# EAGLE library part DMN601VK-7 (library RoboRacing Manual Board)
Mosfet Array 2 N-Channel (Dual) 60V 305mA 250mW Surface Mount SOT-563 https://www.diodes.com/assets/Datasheets/ds30655.pdf
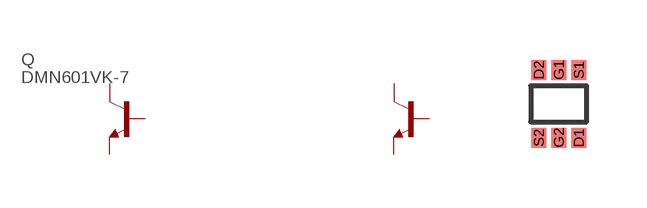
[diagram p0: symbol with the pads of SOT563; footprint SOT563]

Designator prefix Q

## DMN601VK-7 (DKPN: DMN601VKDITR-ND)  [SOT563]
D1  E  pas
D2  E1  pas
G1  B  pas
G2  B1  pas
S1  C  pas
S2  C1  pas

## Footprint SOT563 (pad centres in mm)
smd 0.375 x 0.5: D1 1,0; D2 0,1.7; G1 0.5,1.7; G2 0.5,0; S1 1,1.7; S2 0,0